# Altium footprint library RES_5W_Ceramic.PcbLib: 1 footprints
Each footprint in its own frame and in the unit in brackets; x right, y up, seen from the top. Pads: shape width x height; smd on the part's side, far side on the other; paste and mask are expansions set on the pad; w line width, h text height; cw(c..) or ccw(c..) is an arc to the next point about the centre after c.
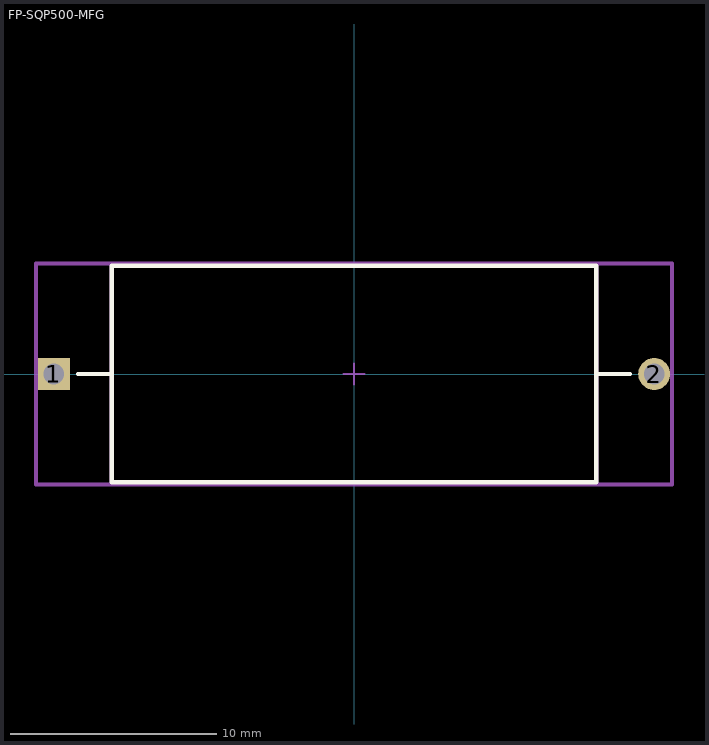
[diagram p0: the footprint, top view; thin cyan lines are the x and y axes]

## FP-SQP500-MFG [mm]
pads (2):
  rect 1.55x1.55 hole 1 paste-1000 mask+0: 1(-14.555,0)
  round 1.55 hole 1 paste-1000 mask+0: 2(14.555,0)
Top Overlay:
  lines w0.2: -13.38,0 -11.75,0 ; 11.75,0 13.38,0 ; -11.75,-5.25 -11.75,5.25 11.75,5.25 11.75,-5.25 -11.75,-5.25
Top Assembly:
  lines w0.2: -15.43,-5.35 -15.43,5.35 15.43,5.35 15.43,-5.35 -15.43,-5.35
  text ".Designator" at 0,0.188 h1
Top 3D Body:
  lines w0.2: -11.75,-5.25 -11.75,5.25 11.75,5.25 11.75,-5.25 -11.75,-5.25
Top Courtyard:
  lines w0.2: -15.43,-5.35 -15.43,5.35 15.43,5.35 15.43,-5.35 -15.43,-5.35
Top Component Center:
  lines w0.1: -0.5,0 0.5,0 ; 0,-0.5 0,0.5
3D body "Res_Yageo_SQP500JB-1R2_eec.STEP": height 0.25, standoff 0, extent -15.43,-5.35 15.43,5.35